# Altium schematic symbol library kmilo17pet-LT_OpAmp_LT1000.SchLib: 2280 symbols (part 48 of 79)
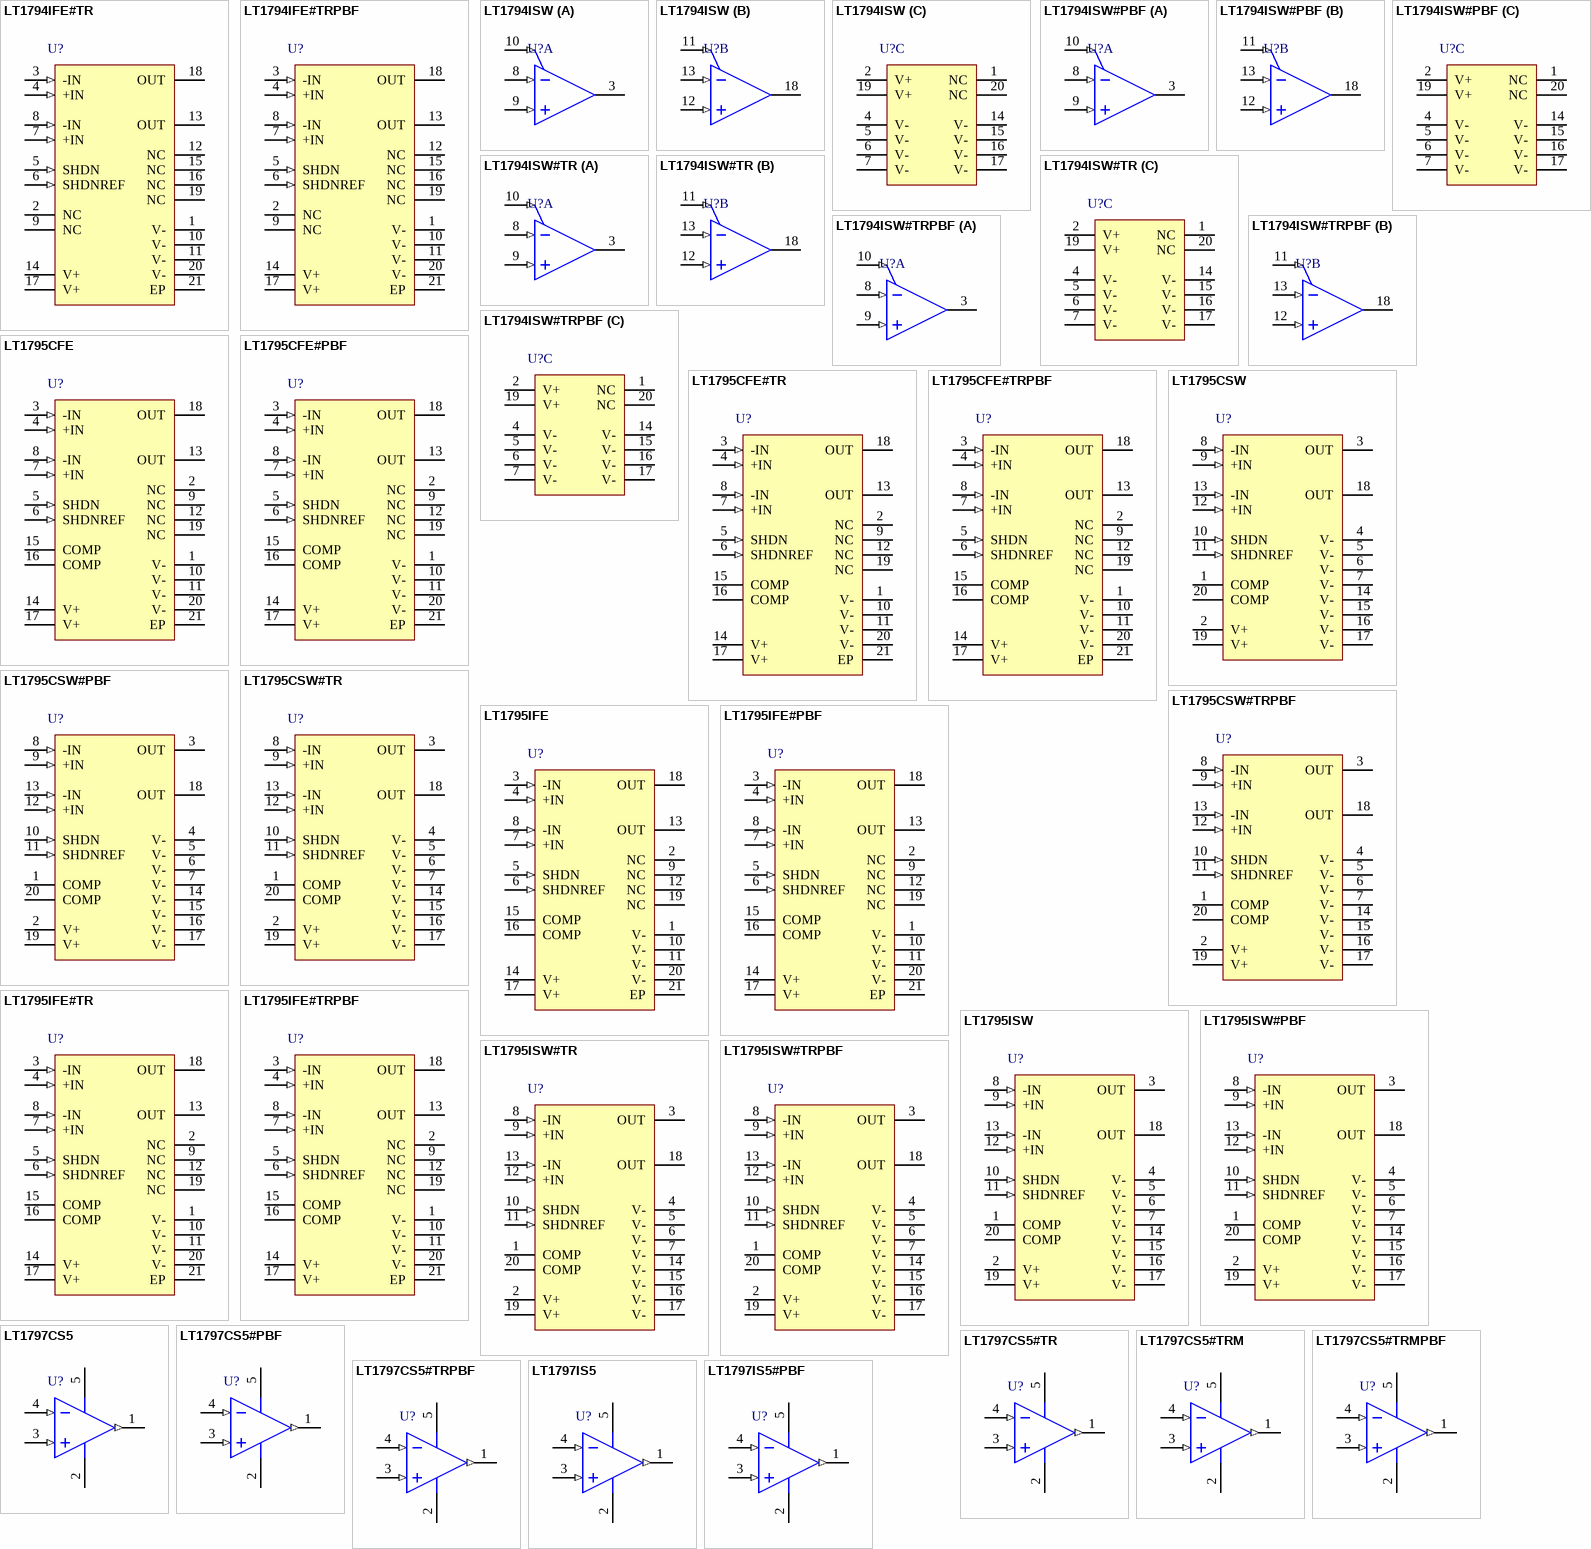
[diagram p152: symbols LT1794IFE#TR to LT1797IS5#PBF]

## LT1795CFE
designator U?
Dual Channel, High Iout, High Speed, Current Feedback Line Driver Operational Amplifier, 65 MHz Typical GBW, 900 V/us Typical SR, 10 to 36 V, 20-Pin SOP (FE-20), Commercial; Linear Technology Part Number: LT1795; Manufacturer: Linear Technology; PartNumber: LT1795CFE; Channels (#): 2; GBW (MHz) Typical: 65; Is (mA) Typical: 29; SR (V/us) Typical: 900; Vos (mV) Guaranteed: 13; Vos (mV) Typical: 3; Vs Max (V): 36; Vs Min (V): 10; DatasheetVersion: Rev. A; PackageVersion: Rev I; PackageReference: LT-FE-20-EPV-CA; PackageDescription: 20-Lead Plastic TSSOP, Body 6.50 x 4.40 mm, Pitch 0.65 mm; Supplier 1: Digi-Key; Supplier Part Number 1: LT1795CFE-ND; Type: CFA; Mounting Technology: Surface Mount; ComponentLink1Description: Manufacturer URL; ComponentLink1URL: http://www.linear.com/; ComponentLink2Description: Datasheet; ComponentLink2URL: http://cds.linear.com/docs/en/datasheet/1795fa.pdf; ComponentLink3Description: Package Specification; ComponentLink3URL: http://cds.linear.com/docs/en/packaging/05081663_I_FE20%28CA%29.pdf
footprint LT-FE-20-EPV-CA_N (SOP, 20-Leads, Body 6.5x4.4mm, Pitch 0.65mm, Thermal Pad 4.95 x 2.74mm, IPC Medium Density)
footprint LT-FE-20-EPV-CA_L (SOP, 20-Leads, Body 6.5x4.4mm, Pitch 0.65mm, Thermal Pad 4.95 x 2.74mm, IPC High Density)
footprint LT-FE-20-EPV-CA_M (SOP, 20-Leads, Body 6.5x4.4mm, Pitch 0.65mm, Thermal Pad 4.95 x2.74mm, IPC Low Density)
pins: 1 V- (power), 2 NC, 3 -IN (in), 4 +IN (in), 5 SHDN (in), 6 SHDNREF (in), 7 +IN (in), 8 -IN (in), 9 NC, 10 V- (power), 11 V- (power), 12 NC, 13 OUT (hiz), 14 V+ (power), 15 COMP, 16 COMP, 17 V+ (power), 18 OUT (hiz), 19 NC, 20 V- (power), 21 EP (power) "UNDERSIDE METAL INTERNALLY CONNECTED TO V- (PCB CONNECTION OPTIONAL)"

## LT1795CFE#PBF
designator U?
Dual Channel, High Iout, High Speed, Current Feedback Line Driver Operational Amplifier, 65 MHz Typical GBW, 900 V/us Typical SR, 10 to 36 V, 20-Pin SOP (FE-20), Commercial, Pb-Free; Linear Technology Part Number: LT1795; Manufacturer: Linear Technology; PartNumber: LT1795CFE#PBF; Channels (#): 2; GBW (MHz) Typical: 65; Is (mA) Typical: 29; SR (V/us) Typical: 900; Vos (mV) Guaranteed: 13; Vos (mV) Typical: 3; Vs Max (V): 36; Vs Min (V): 10; DatasheetVersion: Rev. A; PackageVersion: Rev I; PackageReference: LT-FE-20-EPV-CA; PackageDescription: 20-Lead Plastic TSSOP, Body 6.50 x 4.40 mm, Pitch 0.65 mm; Supplier 1: Digi-Key; Supplier Part Number 1: LT1795CFE#PBF-ND; RoHS: Pb-Free; Type: CFA; Mounting Technology: Surface Mount; ComponentLink1Description: Manufacturer URL; ComponentLink1URL: http://www.linear.com/; ComponentLink2Description: Datasheet; ComponentLink2URL: http://cds.linear.com/docs/en/datasheet/1795fa.pdf; ComponentLink3Description: Package Specification; ComponentLink3URL: http://cds.linear.com/docs/en/packaging/05081663_I_FE20%28CA%29.pdf
footprint LT-FE-20-EPV-CA_N (SOP, 20-Leads, Body 6.5x4.4mm, Pitch 0.65mm, Thermal Pad 4.95 x 2.74mm, IPC Medium Density)
footprint LT-FE-20-EPV-CA_L (SOP, 20-Leads, Body 6.5x4.4mm, Pitch 0.65mm, Thermal Pad 4.95 x 2.74mm, IPC High Density)
footprint LT-FE-20-EPV-CA_M (SOP, 20-Leads, Body 6.5x4.4mm, Pitch 0.65mm, Thermal Pad 4.95 x2.74mm, IPC Low Density)
pins: 1 V- (power), 2 NC, 3 -IN (in), 4 +IN (in), 5 SHDN (in), 6 SHDNREF (in), 7 +IN (in), 8 -IN (in), 9 NC, 10 V- (power), 11 V- (power), 12 NC, 13 OUT (hiz), 14 V+ (power), 15 COMP, 16 COMP, 17 V+ (power), 18 OUT (hiz), 19 NC, 20 V- (power), 21 EP (power) "UNDERSIDE METAL INTERNALLY CONNECTED TO V- (PCB CONNECTION OPTIONAL)"

## LT1795CFE#TR
designator U?
Dual Channel, High Iout, High Speed, Current Feedback Line Driver Operational Amplifier, 65 MHz Typical GBW, 900 V/us Typical SR, 10 to 36 V, 20-Pin SOP (FE-20), Commercial, Reel; Linear Technology Part Number: LT1795; Manufacturer: Linear Technology; PartNumber: LT1795CFE#TR; Channels (#): 2; GBW (MHz) Typical: 65; Is (mA) Typical: 29; SR (V/us) Typical: 900; Vos (mV) Guaranteed: 13; Vos (mV) Typical: 3; Vs Max (V): 36; Vs Min (V): 10; DatasheetVersion: Rev. A; PackageVersion: Rev I; PackageReference: LT-FE-20-EPV-CA; PackageDescription: 20-Lead Plastic TSSOP, Body 6.50 x 4.40 mm, Pitch 0.65 mm; Supplier 1: Digi-Key; Supplier Part Number 1: LT1795CFE#TR-ND; Packing: Reel; Type: CFA; Mounting Technology: Surface Mount; ComponentLink1Description: Manufacturer URL; ComponentLink1URL: http://www.linear.com/; ComponentLink2Description: Datasheet; ComponentLink2URL: http://cds.linear.com/docs/en/datasheet/1795fa.pdf; ComponentLink3Description: Package Specification; ComponentLink3URL: http://cds.linear.com/docs/en/packaging/05081663_I_FE20%28CA%29.pdf
footprint LT-FE-20-EPV-CA_N (SOP, 20-Leads, Body 6.5x4.4mm, Pitch 0.65mm, Thermal Pad 4.95 x 2.74mm, IPC Medium Density)
footprint LT-FE-20-EPV-CA_L (SOP, 20-Leads, Body 6.5x4.4mm, Pitch 0.65mm, Thermal Pad 4.95 x 2.74mm, IPC High Density)
footprint LT-FE-20-EPV-CA_M (SOP, 20-Leads, Body 6.5x4.4mm, Pitch 0.65mm, Thermal Pad 4.95 x2.74mm, IPC Low Density)
pins: 1 V- (power), 2 NC, 3 -IN (in), 4 +IN (in), 5 SHDN (in), 6 SHDNREF (in), 7 +IN (in), 8 -IN (in), 9 NC, 10 V- (power), 11 V- (power), 12 NC, 13 OUT (hiz), 14 V+ (power), 15 COMP, 16 COMP, 17 V+ (power), 18 OUT (hiz), 19 NC, 20 V- (power), 21 EP (power) "UNDERSIDE METAL INTERNALLY CONNECTED TO V- (PCB CONNECTION OPTIONAL)"

## LT1795CFE#TRPBF
designator U?
Dual Channel, High Iout, High Speed, Current Feedback Line Driver Operational Amplifier, 65 MHz Typical GBW, 900 V/us Typical SR, 10 to 36 V, 20-Pin SOP (FE-20), Commercial, Pb-Free, Reel; Linear Technology Part Number: LT1795; Manufacturer: Linear Technology; PartNumber: LT1795CFE#TRPBF; Channels (#): 2; GBW (MHz) Typical: 65; Is (mA) Typical: 29; SR (V/us) Typical: 900; Vos (mV) Guaranteed: 13; Vos (mV) Typical: 3; Vs Max (V): 36; Vs Min (V): 10; DatasheetVersion: Rev. A; PackageVersion: Rev I; PackageReference: LT-FE-20-EPV-CA; PackageDescription: 20-Lead Plastic TSSOP, Body 6.50 x 4.40 mm, Pitch 0.65 mm; Supplier 1: Digi-Key; Supplier Part Number 1: LT1795CFE#TRPBF-ND; Packing: Reel; RoHS: Pb-Free; Type: CFA; Mounting Technology: Surface Mount; ComponentLink1Description: Manufacturer URL; ComponentLink1URL: http://www.linear.com/; ComponentLink2Description: Datasheet; ComponentLink2URL: http://cds.linear.com/docs/en/datasheet/1795fa.pdf; ComponentLink3Description: Package Specification; ComponentLink3URL: http://cds.linear.com/docs/en/packaging/05081663_I_FE20%28CA%29.pdf
footprint LT-FE-20-EPV-CA_N (SOP, 20-Leads, Body 6.5x4.4mm, Pitch 0.65mm, Thermal Pad 4.95 x 2.74mm, IPC Medium Density)
footprint LT-FE-20-EPV-CA_L (SOP, 20-Leads, Body 6.5x4.4mm, Pitch 0.65mm, Thermal Pad 4.95 x 2.74mm, IPC High Density)
footprint LT-FE-20-EPV-CA_M (SOP, 20-Leads, Body 6.5x4.4mm, Pitch 0.65mm, Thermal Pad 4.95 x2.74mm, IPC Low Density)
pins: 1 V- (power), 2 NC, 3 -IN (in), 4 +IN (in), 5 SHDN (in), 6 SHDNREF (in), 7 +IN (in), 8 -IN (in), 9 NC, 10 V- (power), 11 V- (power), 12 NC, 13 OUT (hiz), 14 V+ (power), 15 COMP, 16 COMP, 17 V+ (power), 18 OUT (hiz), 19 NC, 20 V- (power), 21 EP (power) "UNDERSIDE METAL INTERNALLY CONNECTED TO V- (PCB CONNECTION OPTIONAL)"

## LT1795CSW
designator U?
Dual Channel, High Iout, High Speed, Current Feedback Line Driver Operational Amplifier, 65 MHz Typical GBW, 900 V/us Typical SR, 10 to 36 V, 20-Pin SOIC (SW-20), Commercial; Linear Technology Part Number: LT1795; Manufacturer: Linear Technology; PartNumber: LT1795CSW; Channels (#): 2; GBW (MHz) Typical: 65; Is (mA) Typical: 29; SR (V/us) Typical: 900; Vos (mV) Guaranteed: 13; Vos (mV) Typical: 3; Vs Max (V): 36; Vs Min (V): 10; DatasheetVersion: Rev. A; PackageReference: LT-SW-20; PackageDescription: 20-Lead Plastic Small Outline, Body 12.80 x 7.49 mm, Pitch 1.27 mm; Supplier 1: Digi-Key; Supplier Part Number 1: LT1795CSW-ND; Supplier 2: Newark; Supplier Part Number 2: 57M6690; Type: CFA; Mounting Technology: Surface Mount; ComponentLink1Description: Manufacturer URL; ComponentLink1URL: http://www.linear.com/; ComponentLink2Description: Datasheet; ComponentLink2URL: http://cds.linear.com/docs/en/datasheet/1795fa.pdf; ComponentLink3Description: Package Specification; ComponentLink3URL: http://cds.linear.com/docs/en/packaging/SO_16_05-08-1620.pdf
footprint LT-SW-20_N (SOIC, 20-Leads, Body 12.8x7.49mm, Pitch 1.27mm, IPC Medium Density)
footprint LT-SW-20_L (SOIC, 20-Leads, Body 12.8x7.49mm, Pitch 1.27mm, IPC High Density)
footprint LT-SW-20_M (SOIC, 20-Leads, Body 12.8x7.49mm, Pitch 1.27mm, IPC Low Density)
pins: 1 COMP, 2 V+ (power), 3 OUT (hiz), 4 V- (power), 5 V- (power), 6 V- (power), 7 V- (power), 8 -IN (in), 9 +IN (in), 10 SHDN (in), 11 SHDNREF (in), 12 +IN (in), 13 -IN (in), 14 V- (power), 15 V- (power), 16 V- (power), 17 V- (power), 18 OUT (hiz), 19 V+ (power), 20 COMP

## LT1795CSW#PBF
designator U?
Dual Channel, High Iout, High Speed, Current Feedback Line Driver Operational Amplifier, 65 MHz Typical GBW, 900 V/us Typical SR, 10 to 36 V, 20-Pin SOIC (SW-20), Commercial, Pb-Free; Linear Technology Part Number: LT1795; Manufacturer: Linear Technology; PartNumber: LT1795CSW#PBF; Channels (#): 2; GBW (MHz) Typical: 65; Is (mA) Typical: 29; SR (V/us) Typical: 900; Vos (mV) Guaranteed: 13; Vos (mV) Typical: 3; Vs Max (V): 36; Vs Min (V): 10; DatasheetVersion: Rev. A; PackageReference: LT-SW-20; PackageDescription: 20-Lead Plastic Small Outline, Body 12.80 x 7.49 mm, Pitch 1.27 mm; Supplier 1: Digi-Key; Supplier Part Number 1: LT1795CSW#PBF-ND; Supplier 2: Farnell; Supplier Part Number 2: 1330701; Supplier 3: Newark; Supplier Part Number 3: 57M6691; RoHS: Pb-Free; Type: CFA; Mounting Technology: Surface Mount; ComponentLink1Description: Manufacturer URL; ComponentLink1URL: http://www.linear.com/; ComponentLink2Description: Datasheet; ComponentLink2URL: http://cds.linear.com/docs/en/datasheet/1795fa.pdf; ComponentLink3Description: Package Specification; ComponentLink3URL: http://cds.linear.com/docs/en/packaging/SO_16_05-08-1620.pdf
footprint LT-SW-20_N (SOIC, 20-Leads, Body 12.8x7.49mm, Pitch 1.27mm, IPC Medium Density)
footprint LT-SW-20_L (SOIC, 20-Leads, Body 12.8x7.49mm, Pitch 1.27mm, IPC High Density)
footprint LT-SW-20_M (SOIC, 20-Leads, Body 12.8x7.49mm, Pitch 1.27mm, IPC Low Density)
pins: 1 COMP, 2 V+ (power), 3 OUT (hiz), 4 V- (power), 5 V- (power), 6 V- (power), 7 V- (power), 8 -IN (in), 9 +IN (in), 10 SHDN (in), 11 SHDNREF (in), 12 +IN (in), 13 -IN (in), 14 V- (power), 15 V- (power), 16 V- (power), 17 V- (power), 18 OUT (hiz), 19 V+ (power), 20 COMP

## LT1795CSW#TR
designator U?
Dual Channel, High Iout, High Speed, Current Feedback Line Driver Operational Amplifier, 65 MHz Typical GBW, 900 V/us Typical SR, 10 to 36 V, 20-Pin SOIC (SW-20), Commercial, Reel; Linear Technology Part Number: LT1795; Manufacturer: Linear Technology; PartNumber: LT1795CSW#TR; Channels (#): 2; GBW (MHz) Typical: 65; Is (mA) Typical: 29; SR (V/us) Typical: 900; Vos (mV) Guaranteed: 13; Vos (mV) Typical: 3; Vs Max (V): 36; Vs Min (V): 10; DatasheetVersion: Rev. A; PackageReference: LT-SW-20; PackageDescription: 20-Lead Plastic Small Outline, Body 12.80 x 7.49 mm, Pitch 1.27 mm; Supplier 1: Digi-Key; Supplier Part Number 1: LT1795CSW#TR-ND; Packing: Reel; Type: CFA; Mounting Technology: Surface Mount; ComponentLink1Description: Manufacturer URL; ComponentLink1URL: http://www.linear.com/; ComponentLink2Description: Datasheet; ComponentLink2URL: http://cds.linear.com/docs/en/datasheet/1795fa.pdf; ComponentLink3Description: Package Specification; ComponentLink3URL: http://cds.linear.com/docs/en/packaging/SO_16_05-08-1620.pdf
footprint LT-SW-20_N (SOIC, 20-Leads, Body 12.8x7.49mm, Pitch 1.27mm, IPC Medium Density)
footprint LT-SW-20_L (SOIC, 20-Leads, Body 12.8x7.49mm, Pitch 1.27mm, IPC High Density)
footprint LT-SW-20_M (SOIC, 20-Leads, Body 12.8x7.49mm, Pitch 1.27mm, IPC Low Density)
pins: 1 COMP, 2 V+ (power), 3 OUT (hiz), 4 V- (power), 5 V- (power), 6 V- (power), 7 V- (power), 8 -IN (in), 9 +IN (in), 10 SHDN (in), 11 SHDNREF (in), 12 +IN (in), 13 -IN (in), 14 V- (power), 15 V- (power), 16 V- (power), 17 V- (power), 18 OUT (hiz), 19 V+ (power), 20 COMP

## LT1795CSW#TRPBF
designator U?
Dual Channel, High Iout, High Speed, Current Feedback Line Driver Operational Amplifier, 65 MHz Typical GBW, 900 V/us Typical SR, 10 to 36 V, 20-Pin SOIC (SW-20), Commercial, Pb-Free, Reel; Linear Technology Part Number: LT1795; Manufacturer: Linear Technology; PartNumber: LT1795CSW#TRPBF; Channels (#): 2; GBW (MHz) Typical: 65; Is (mA) Typical: 29; SR (V/us) Typical: 900; Vos (mV) Guaranteed: 13; Vos (mV) Typical: 3; Vs Max (V): 36; Vs Min (V): 10; DatasheetVersion: Rev. A; PackageReference: LT-SW-20; PackageDescription: 20-Lead Plastic Small Outline, Body 12.80 x 7.49 mm, Pitch 1.27 mm; Supplier 1: Digi-Key; Supplier Part Number 1: LT1795CSW#TRPBF-ND; Packing: Reel; RoHS: Pb-Free; Type: CFA; Mounting Technology: Surface Mount; ComponentLink1Description: Manufacturer URL; ComponentLink1URL: http://www.linear.com/; ComponentLink2Description: Datasheet; ComponentLink2URL: http://cds.linear.com/docs/en/datasheet/1795fa.pdf; ComponentLink3Description: Package Specification; ComponentLink3URL: http://cds.linear.com/docs/en/packaging/SO_16_05-08-1620.pdf
footprint LT-SW-20_N (SOIC, 20-Leads, Body 12.8x7.49mm, Pitch 1.27mm, IPC Medium Density)
footprint LT-SW-20_L (SOIC, 20-Leads, Body 12.8x7.49mm, Pitch 1.27mm, IPC High Density)
footprint LT-SW-20_M (SOIC, 20-Leads, Body 12.8x7.49mm, Pitch 1.27mm, IPC Low Density)
pins: 1 COMP, 2 V+ (power), 3 OUT (hiz), 4 V- (power), 5 V- (power), 6 V- (power), 7 V- (power), 8 -IN (in), 9 +IN (in), 10 SHDN (in), 11 SHDNREF (in), 12 +IN (in), 13 -IN (in), 14 V- (power), 15 V- (power), 16 V- (power), 17 V- (power), 18 OUT (hiz), 19 V+ (power), 20 COMP

## LT1795IFE
designator U?
Dual Channel, High Iout, High Speed, Current Feedback Line Driver Operational Amplifier, 65 MHz Typical GBW, 900 V/us Typical SR, 10 to 36 V, 20-Pin SOP (FE-20), Industrial; Linear Technology Part Number: LT1795; Manufacturer: Linear Technology; PartNumber: LT1795IFE; Channels (#): 2; GBW (MHz) Typical: 65; Is (mA) Typical: 29; SR (V/us) Typical: 900; Vos (mV) Guaranteed: 13; Vos (mV) Typical: 3; Vs Max (V): 36; Vs Min (V): 10; DatasheetVersion: Rev. A; PackageVersion: Rev I; PackageReference: LT-FE-20-EPV-CA; PackageDescription: 20-Lead Plastic TSSOP, Body 6.50 x 4.40 mm, Pitch 0.65 mm; Supplier 1: Digi-Key; Supplier Part Number 1: LT1795IFE-ND; Type: CFA; Mounting Technology: Surface Mount; ComponentLink1Description: Manufacturer URL; ComponentLink1URL: http://www.linear.com/; ComponentLink2Description: Datasheet; ComponentLink2URL: http://cds.linear.com/docs/en/datasheet/1795fa.pdf; ComponentLink3Description: Package Specification; ComponentLink3URL: http://cds.linear.com/docs/en/packaging/05081663_I_FE20%28CA%29.pdf
footprint LT-FE-20-EPV-CA_N (SOP, 20-Leads, Body 6.5x4.4mm, Pitch 0.65mm, Thermal Pad 4.95 x 2.74mm, IPC Medium Density)
footprint LT-FE-20-EPV-CA_L (SOP, 20-Leads, Body 6.5x4.4mm, Pitch 0.65mm, Thermal Pad 4.95 x 2.74mm, IPC High Density)
footprint LT-FE-20-EPV-CA_M (SOP, 20-Leads, Body 6.5x4.4mm, Pitch 0.65mm, Thermal Pad 4.95 x2.74mm, IPC Low Density)
pins: 1 V- (power), 2 NC, 3 -IN (in), 4 +IN (in), 5 SHDN (in), 6 SHDNREF (in), 7 +IN (in), 8 -IN (in), 9 NC, 10 V- (power), 11 V- (power), 12 NC, 13 OUT (hiz), 14 V+ (power), 15 COMP, 16 COMP, 17 V+ (power), 18 OUT (hiz), 19 NC, 20 V- (power), 21 EP (power) "UNDERSIDE METAL INTERNALLY CONNECTED TO V- (PCB CONNECTION OPTIONAL)"

## LT1795IFE#PBF
designator U?
Dual Channel, High Iout, High Speed, Current Feedback Line Driver Operational Amplifier, 65 MHz Typical GBW, 900 V/us Typical SR, 10 to 36 V, 20-Pin SOP (FE-20), Industrial, Pb-Free; Linear Technology Part Number: LT1795; Manufacturer: Linear Technology; PartNumber: LT1795IFE#PBF; Channels (#): 2; GBW (MHz) Typical: 65; Is (mA) Typical: 29; SR (V/us) Typical: 900; Vos (mV) Guaranteed: 13; Vos (mV) Typical: 3; Vs Max (V): 36; Vs Min (V): 10; DatasheetVersion: Rev. A; PackageVersion: Rev I; PackageReference: LT-FE-20-EPV-CA; PackageDescription: 20-Lead Plastic TSSOP, Body 6.50 x 4.40 mm, Pitch 0.65 mm; Supplier 1: Digi-Key; Supplier Part Number 1: LT1795IFE#PBF-ND; RoHS: Pb-Free; Type: CFA; Mounting Technology: Surface Mount; ComponentLink1Description: Manufacturer URL; ComponentLink1URL: http://www.linear.com/; ComponentLink2Description: Datasheet; ComponentLink2URL: http://cds.linear.com/docs/en/datasheet/1795fa.pdf; ComponentLink3Description: Package Specification; ComponentLink3URL: http://cds.linear.com/docs/en/packaging/05081663_I_FE20%28CA%29.pdf
footprint LT-FE-20-EPV-CA_N (SOP, 20-Leads, Body 6.5x4.4mm, Pitch 0.65mm, Thermal Pad 4.95 x 2.74mm, IPC Medium Density)
footprint LT-FE-20-EPV-CA_L (SOP, 20-Leads, Body 6.5x4.4mm, Pitch 0.65mm, Thermal Pad 4.95 x 2.74mm, IPC High Density)
footprint LT-FE-20-EPV-CA_M (SOP, 20-Leads, Body 6.5x4.4mm, Pitch 0.65mm, Thermal Pad 4.95 x2.74mm, IPC Low Density)
pins: 1 V- (power), 2 NC, 3 -IN (in), 4 +IN (in), 5 SHDN (in), 6 SHDNREF (in), 7 +IN (in), 8 -IN (in), 9 NC, 10 V- (power), 11 V- (power), 12 NC, 13 OUT (hiz), 14 V+ (power), 15 COMP, 16 COMP, 17 V+ (power), 18 OUT (hiz), 19 NC, 20 V- (power), 21 EP (power) "UNDERSIDE METAL INTERNALLY CONNECTED TO V- (PCB CONNECTION OPTIONAL)"

## LT1795IFE#TR
designator U?
Dual Channel, High Iout, High Speed, Current Feedback Line Driver Operational Amplifier, 65 MHz Typical GBW, 900 V/us Typical SR, 10 to 36 V, 20-Pin SOP (FE-20), Industrial, Reel; Linear Technology Part Number: LT1795; Manufacturer: Linear Technology; PartNumber: LT1795IFE#TR; Channels (#): 2; GBW (MHz) Typical: 65; Is (mA) Typical: 29; SR (V/us) Typical: 900; Vos (mV) Guaranteed: 13; Vos (mV) Typical: 3; Vs Max (V): 36; Vs Min (V): 10; DatasheetVersion: Rev. A; PackageVersion: Rev I; PackageReference: LT-FE-20-EPV-CA; PackageDescription: 20-Lead Plastic TSSOP, Body 6.50 x 4.40 mm, Pitch 0.65 mm; Supplier 1: Digi-Key; Supplier Part Number 1: LT1795IFE#TR-ND; Packing: Reel; Type: CFA; Mounting Technology: Surface Mount; ComponentLink1Description: Manufacturer URL; ComponentLink1URL: http://www.linear.com/; ComponentLink2Description: Datasheet; ComponentLink2URL: http://cds.linear.com/docs/en/datasheet/1795fa.pdf; ComponentLink3Description: Package Specification; ComponentLink3URL: http://cds.linear.com/docs/en/packaging/05081663_I_FE20%28CA%29.pdf
footprint LT-FE-20-EPV-CA_N (SOP, 20-Leads, Body 6.5x4.4mm, Pitch 0.65mm, Thermal Pad 4.95 x 2.74mm, IPC Medium Density)
footprint LT-FE-20-EPV-CA_L (SOP, 20-Leads, Body 6.5x4.4mm, Pitch 0.65mm, Thermal Pad 4.95 x 2.74mm, IPC High Density)
footprint LT-FE-20-EPV-CA_M (SOP, 20-Leads, Body 6.5x4.4mm, Pitch 0.65mm, Thermal Pad 4.95 x2.74mm, IPC Low Density)
pins: 1 V- (power), 2 NC, 3 -IN (in), 4 +IN (in), 5 SHDN (in), 6 SHDNREF (in), 7 +IN (in), 8 -IN (in), 9 NC, 10 V- (power), 11 V- (power), 12 NC, 13 OUT (hiz), 14 V+ (power), 15 COMP, 16 COMP, 17 V+ (power), 18 OUT (hiz), 19 NC, 20 V- (power), 21 EP (power) "UNDERSIDE METAL INTERNALLY CONNECTED TO V- (PCB CONNECTION OPTIONAL)"

## LT1795IFE#TRPBF
designator U?
Dual Channel, High Iout, High Speed, Current Feedback Line Driver Operational Amplifier, 65 MHz Typical GBW, 900 V/us Typical SR, 10 to 36 V, 20-Pin SOP (FE-20), Industrial, Pb-Free, Reel; Linear Technology Part Number: LT1795; Manufacturer: Linear Technology; PartNumber: LT1795IFE#TRPBF; Channels (#): 2; GBW (MHz) Typical: 65; Is (mA) Typical: 29; SR (V/us) Typical: 900; Vos (mV) Guaranteed: 13; Vos (mV) Typical: 3; Vs Max (V): 36; Vs Min (V): 10; DatasheetVersion: Rev. A; PackageVersion: Rev I; PackageReference: LT-FE-20-EPV-CA; PackageDescription: 20-Lead Plastic TSSOP, Body 6.50 x 4.40 mm, Pitch 0.65 mm; Supplier 1: Digi-Key; Supplier Part Number 1: LT1795IFE#TRPBF-ND; Packing: Reel; RoHS: Pb-Free; Type: CFA; Mounting Technology: Surface Mount; ComponentLink1Description: Manufacturer URL; ComponentLink1URL: http://www.linear.com/; ComponentLink2Description: Datasheet; ComponentLink2URL: http://cds.linear.com/docs/en/datasheet/1795fa.pdf; ComponentLink3Description: Package Specification; ComponentLink3URL: http://cds.linear.com/docs/en/packaging/05081663_I_FE20%28CA%29.pdf
footprint LT-FE-20-EPV-CA_N (SOP, 20-Leads, Body 6.5x4.4mm, Pitch 0.65mm, Thermal Pad 4.95 x 2.74mm, IPC Medium Density)
footprint LT-FE-20-EPV-CA_L (SOP, 20-Leads, Body 6.5x4.4mm, Pitch 0.65mm, Thermal Pad 4.95 x 2.74mm, IPC High Density)
footprint LT-FE-20-EPV-CA_M (SOP, 20-Leads, Body 6.5x4.4mm, Pitch 0.65mm, Thermal Pad 4.95 x2.74mm, IPC Low Density)
pins: 1 V- (power), 2 NC, 3 -IN (in), 4 +IN (in), 5 SHDN (in), 6 SHDNREF (in), 7 +IN (in), 8 -IN (in), 9 NC, 10 V- (power), 11 V- (power), 12 NC, 13 OUT (hiz), 14 V+ (power), 15 COMP, 16 COMP, 17 V+ (power), 18 OUT (hiz), 19 NC, 20 V- (power), 21 EP (power) "UNDERSIDE METAL INTERNALLY CONNECTED TO V- (PCB CONNECTION OPTIONAL)"

## LT1795ISW
designator U?
Dual Channel, High Iout, High Speed, Current Feedback Line Driver Operational Amplifier, 65 MHz Typical GBW, 900 V/us Typical SR, 10 to 36 V, 20-Pin SOIC (SW-20), Industrial; Linear Technology Part Number: LT1795; Manufacturer: Linear Technology; PartNumber: LT1795ISW; Channels (#): 2; GBW (MHz) Typical: 65; Is (mA) Typical: 29; SR (V/us) Typical: 900; Vos (mV) Guaranteed: 13; Vos (mV) Typical: 3; Vs Max (V): 36; Vs Min (V): 10; DatasheetVersion: Rev. A; PackageReference: LT-SW-20; PackageDescription: 20-Lead Plastic Small Outline, Body 12.80 x 7.49 mm, Pitch 1.27 mm; Supplier 1: Digi-Key; Supplier Part Number 1: LT1795ISW-ND; Type: CFA; Mounting Technology: Surface Mount; ComponentLink1Description: Manufacturer URL; ComponentLink1URL: http://www.linear.com/; ComponentLink2Description: Datasheet; ComponentLink2URL: http://cds.linear.com/docs/en/datasheet/1795fa.pdf; ComponentLink3Description: Package Specification; ComponentLink3URL: http://cds.linear.com/docs/en/packaging/SO_16_05-08-1620.pdf
footprint LT-SW-20_N (SOIC, 20-Leads, Body 12.8x7.49mm, Pitch 1.27mm, IPC Medium Density)
footprint LT-SW-20_L (SOIC, 20-Leads, Body 12.8x7.49mm, Pitch 1.27mm, IPC High Density)
footprint LT-SW-20_M (SOIC, 20-Leads, Body 12.8x7.49mm, Pitch 1.27mm, IPC Low Density)
pins: 1 COMP, 2 V+ (power), 3 OUT (hiz), 4 V- (power), 5 V- (power), 6 V- (power), 7 V- (power), 8 -IN (in), 9 +IN (in), 10 SHDN (in), 11 SHDNREF (in), 12 +IN (in), 13 -IN (in), 14 V- (power), 15 V- (power), 16 V- (power), 17 V- (power), 18 OUT (hiz), 19 V+ (power), 20 COMP

## LT1795ISW#PBF
designator U?
Dual Channel, High Iout, High Speed, Current Feedback Line Driver Operational Amplifier, 65 MHz Typical GBW, 900 V/us Typical SR, 10 to 36 V, 20-Pin SOIC (SW-20), Industrial, Pb-Free; Linear Technology Part Number: LT1795; Manufacturer: Linear Technology; PartNumber: LT1795ISW#PBF; Channels (#): 2; GBW (MHz) Typical: 65; Is (mA) Typical: 29; SR (V/us) Typical: 900; Vos (mV) Guaranteed: 13; Vos (mV) Typical: 3; Vs Max (V): 36; Vs Min (V): 10; DatasheetVersion: Rev. A; PackageReference: LT-SW-20; PackageDescription: 20-Lead Plastic Small Outline, Body 12.80 x 7.49 mm, Pitch 1.27 mm; Supplier 1: Digi-Key; Supplier Part Number 1: LT1795ISW#PBF-ND; RoHS: Pb-Free; Type: CFA; Mounting Technology: Surface Mount; ComponentLink1Description: Manufacturer URL; ComponentLink1URL: http://www.linear.com/; ComponentLink2Description: Datasheet; ComponentLink2URL: http://cds.linear.com/docs/en/datasheet/1795fa.pdf; ComponentLink3Description: Package Specification; ComponentLink3URL: http://cds.linear.com/docs/en/packaging/SO_16_05-08-1620.pdf
footprint LT-SW-20_N (SOIC, 20-Leads, Body 12.8x7.49mm, Pitch 1.27mm, IPC Medium Density)
footprint LT-SW-20_L (SOIC, 20-Leads, Body 12.8x7.49mm, Pitch 1.27mm, IPC High Density)
footprint LT-SW-20_M (SOIC, 20-Leads, Body 12.8x7.49mm, Pitch 1.27mm, IPC Low Density)
pins: 1 COMP, 2 V+ (power), 3 OUT (hiz), 4 V- (power), 5 V- (power), 6 V- (power), 7 V- (power), 8 -IN (in), 9 +IN (in), 10 SHDN (in), 11 SHDNREF (in), 12 +IN (in), 13 -IN (in), 14 V- (power), 15 V- (power), 16 V- (power), 17 V- (power), 18 OUT (hiz), 19 V+ (power), 20 COMP

## LT1795ISW#TR
designator U?
Dual Channel, High Iout, High Speed, Current Feedback Line Driver Operational Amplifier, 65 MHz Typical GBW, 900 V/us Typical SR, 10 to 36 V, 20-Pin SOIC (SW-20), Industrial, Reel; Linear Technology Part Number: LT1795; Manufacturer: Linear Technology; PartNumber: LT1795ISW#TR; Channels (#): 2; GBW (MHz) Typical: 65; Is (mA) Typical: 29; SR (V/us) Typical: 900; Vos (mV) Guaranteed: 13; Vos (mV) Typical: 3; Vs Max (V): 36; Vs Min (V): 10; DatasheetVersion: Rev. A; PackageReference: LT-SW-20; PackageDescription: 20-Lead Plastic Small Outline, Body 12.80 x 7.49 mm, Pitch 1.27 mm; Supplier 1: Digi-Key; Supplier Part Number 1: LT1795ISW#TR-ND; Packing: Reel; Type: CFA; Mounting Technology: Surface Mount; ComponentLink1Description: Manufacturer URL; ComponentLink1URL: http://www.linear.com/; ComponentLink2Description: Datasheet; ComponentLink2URL: http://cds.linear.com/docs/en/datasheet/1795fa.pdf; ComponentLink3Description: Package Specification; ComponentLink3URL: http://cds.linear.com/docs/en/packaging/SO_16_05-08-1620.pdf
footprint LT-SW-20_N (SOIC, 20-Leads, Body 12.8x7.49mm, Pitch 1.27mm, IPC Medium Density)
footprint LT-SW-20_L (SOIC, 20-Leads, Body 12.8x7.49mm, Pitch 1.27mm, IPC High Density)
footprint LT-SW-20_M (SOIC, 20-Leads, Body 12.8x7.49mm, Pitch 1.27mm, IPC Low Density)
pins: 1 COMP, 2 V+ (power), 3 OUT (hiz), 4 V- (power), 5 V- (power), 6 V- (power), 7 V- (power), 8 -IN (in), 9 +IN (in), 10 SHDN (in), 11 SHDNREF (in), 12 +IN (in), 13 -IN (in), 14 V- (power), 15 V- (power), 16 V- (power), 17 V- (power), 18 OUT (hiz), 19 V+ (power), 20 COMP

## LT1795ISW#TRPBF
designator U?
Dual Channel, High Iout, High Speed, Current Feedback Line Driver Operational Amplifier, 65 MHz Typical GBW, 900 V/us Typical SR, 10 to 36 V, 20-Pin SOIC (SW-20), Industrial, Pb-Free, Reel; Linear Technology Part Number: LT1795; Manufacturer: Linear Technology; PartNumber: LT1795ISW#TRPBF; Channels (#): 2; GBW (MHz) Typical: 65; Is (mA) Typical: 29; SR (V/us) Typical: 900; Vos (mV) Guaranteed: 13; Vos (mV) Typical: 3; Vs Max (V): 36; Vs Min (V): 10; DatasheetVersion: Rev. A; PackageReference: LT-SW-20; PackageDescription: 20-Lead Plastic Small Outline, Body 12.80 x 7.49 mm, Pitch 1.27 mm; Supplier 1: Digi-Key; Supplier Part Number 1: LT1795ISW#TRPBF-ND; Packing: Reel; RoHS: Pb-Free; Type: CFA; Mounting Technology: Surface Mount; ComponentLink1Description: Manufacturer URL; ComponentLink1URL: http://www.linear.com/; ComponentLink2Description: Datasheet; ComponentLink2URL: http://cds.linear.com/docs/en/datasheet/1795fa.pdf; ComponentLink3Description: Package Specification; ComponentLink3URL: http://cds.linear.com/docs/en/packaging/SO_16_05-08-1620.pdf
footprint LT-SW-20_N (SOIC, 20-Leads, Body 12.8x7.49mm, Pitch 1.27mm, IPC Medium Density)
footprint LT-SW-20_L (SOIC, 20-Leads, Body 12.8x7.49mm, Pitch 1.27mm, IPC High Density)
footprint LT-SW-20_M (SOIC, 20-Leads, Body 12.8x7.49mm, Pitch 1.27mm, IPC Low Density)
pins: 1 COMP, 2 V+ (power), 3 OUT (hiz), 4 V- (power), 5 V- (power), 6 V- (power), 7 V- (power), 8 -IN (in), 9 +IN (in), 10 SHDN (in), 11 SHDNREF (in), 12 +IN (in), 13 -IN (in), 14 V- (power), 15 V- (power), 16 V- (power), 17 V- (power), 18 OUT (hiz), 19 V+ (power), 20 COMP

## LT1797CS5
designator U?
Single Channel, Low Noise, C-Load Stable Operational Amplifier, RRIO, 10 MHz Typical GBW, 2.25 V/us Typical SR, 2.1 to 12.6 V, 5-Pin SOT23 (S5-5), Commercial; Linear Technology Part Number: LT1797; Manufacturer: Linear Technology; PartNumber: LT1797CS5; Channels (#): 1; GBW (MHz) Typical: 10; Is (mA) Typical: 1.1; SR (V/us) Typical: 2.25; Vos (mV) Guaranteed: 1.5; Vs Max (V): 12.6; Vs Min (V): 2.1; DatasheetVersion: Rev. B; PackageReference: LT-S5-5-TSOT-23; PackageDescription: 5-Lead Plastic TSOT-23, Body 1.63 x 2.90 mm, Pitch 0.95 mm; Type: VFB; Vos (mV) Typical: 1; Mounting Technology: Surface Mount; Code_JEDEC: MO-193; ComponentLink1Description: Manufacturer URL; ComponentLink1URL: http://www.linear.com/; ComponentLink2Description: Datasheet; ComponentLink2URL: http://cds.linear.com/docs/en/datasheet/1797fb.pdf; ComponentLink3Description: Package Specification; ComponentLink3URL: http://cds.linear.com/docs/en/packaging/SOT_5_05-08-1635.pdf
footprint LT-S5-5-TSOT-23_N (SOT23, 5-Leads, Body 2.90x1.63mm, Pitch 0.95mm, IPC Medium Density)
footprint LT-S5-5-TSOT-23_L (SOT23, 5-Leads, Body 2.90x1.63mm, Pitch 0.95mm, IPC High Density)
footprint LT-S5-5-TSOT-23_M (SOT23, 5-Leads, Body 2.90x1.63mm, Pitch 0.95mm, IPC Low Density)
pins: 1 OUT (out) "Output.", 2 V- (power) "Negative Supply Voltage, Usually -5V.", 3 +IN (in) "Noninverting Input.", 4 -IN (in) "Inverting Input.", 5 V+ (power) "Positive Supply Voltage, Usually 5V."

## LT1797CS5#PBF
designator U?
Single Channel, Low Noise, C-load Stable Operational Amplifier, RRIO, 10 MHz Typical GBW, 2.25 V/us Typical SR, 2.1 to 12.6 V, 5-Pin SOT23 (S5-5), Commercial, Pb-Free; Linear Technology Part Number: LT1797; Manufacturer: Linear Technology; PartNumber: LT1797CS5#PBF; Channels (#): 1; GBW (MHz) Typical: 10; Is (mA) Typical: 1.1; SR (V/us) Typical: 2.25; Vos (mV) Guaranteed: 1.5; Vs Max (V): 12.6; Vs Min (V): 2.1; DatasheetVersion: Rev. B; PackageReference: LT-S5-5-TSOT-23; PackageDescription: 5-Lead Plastic TSOT-23, Body 1.63 x 2.90 mm, Pitch 0.95 mm; Supplier 1: Newark; Supplier Part Number 1: 78T3739; RoHS: Pb-Free; Type: VFB; Vos (mV) Typical: 1; Mounting Technology: Surface Mount; Code_JEDEC: MO-193; ComponentLink1Description: Manufacturer URL; ComponentLink1URL: http://www.linear.com/; ComponentLink2Description: Datasheet; ComponentLink2URL: http://cds.linear.com/docs/en/datasheet/1797fb.pdf; ComponentLink3Description: Package Specification; ComponentLink3URL: http://cds.linear.com/docs/en/packaging/SOT_5_05-08-1635.pdf
footprint LT-S5-5-TSOT-23_N (SOT23, 5-Leads, Body 2.90x1.63mm, Pitch 0.95mm, IPC Medium Density)
footprint LT-S5-5-TSOT-23_L (SOT23, 5-Leads, Body 2.90x1.63mm, Pitch 0.95mm, IPC High Density)
footprint LT-S5-5-TSOT-23_M (SOT23, 5-Leads, Body 2.90x1.63mm, Pitch 0.95mm, IPC Low Density)
pins: 1 OUT (out) "Output.", 2 V- (power) "Negative Supply Voltage, Usually -5V.", 3 +IN (in) "Noninverting Input.", 4 -IN (in) "Inverting Input.", 5 V+ (power) "Positive Supply Voltage, Usually 5V."

## LT1797CS5#TR
designator U?
Single Channel, Low Noise, C-load Stable Operational Amplifier, RRIO, 10 MHz Typical GBW, 2.25 V/us Typical SR, 2.1 to 12.6 V, 5-Pin SOT23 (S5-5), Commercial, Reel; Linear Technology Part Number: LT1797; Manufacturer: Linear Technology; PartNumber: LT1797CS5#TR; Channels (#): 1; GBW (MHz) Typical: 10; Is (mA) Typical: 1.1; SR (V/us) Typical: 2.25; Vos (mV) Guaranteed: 1.5; Vs Max (V): 12.6; Vs Min (V): 2.1; DatasheetVersion: Rev. B; PackageReference: LT-S5-5-TSOT-23; PackageDescription: 5-Lead Plastic TSOT-23, Body 1.63 x 2.90 mm, Pitch 0.95 mm; Supplier 1: Digi-Key; Supplier Part Number 1: LT1797CS5#TR-ND; Packing: Reel; Type: VFB; Vos (mV) Typical: 1; Mounting Technology: Surface Mount; Code_JEDEC: MO-193; ComponentLink1Description: Manufacturer URL; ComponentLink1URL: http://www.linear.com/; ComponentLink2Description: Datasheet; ComponentLink2URL: http://cds.linear.com/docs/en/datasheet/1797fb.pdf; ComponentLink3Description: Package Specification; ComponentLink3URL: http://cds.linear.com/docs/en/packaging/SOT_5_05-08-1635.pdf
footprint LT-S5-5-TSOT-23_N (SOT23, 5-Leads, Body 2.90x1.63mm, Pitch 0.95mm, IPC Medium Density)
footprint LT-S5-5-TSOT-23_L (SOT23, 5-Leads, Body 2.90x1.63mm, Pitch 0.95mm, IPC High Density)
footprint LT-S5-5-TSOT-23_M (SOT23, 5-Leads, Body 2.90x1.63mm, Pitch 0.95mm, IPC Low Density)
pins: 1 OUT (out) "Output.", 2 V- (power) "Negative Supply Voltage, Usually -5V.", 3 +IN (in) "Noninverting Input.", 4 -IN (in) "Inverting Input.", 5 V+ (power) "Positive Supply Voltage, Usually 5V."

## LT1797CS5#TRM
designator U?
Single Channel, Low Noise, C-load Stable Operational Amplifier, RRIO, 10 MHz Typical GBW, 2.25 V/us Typical SR, 2.1 to 12.6 V, 5-Pin SOT23 (S5-5), Commercial, Mini Reel; Linear Technology Part Number: LT1797; Manufacturer: Linear Technology; PartNumber: LT1797CS5#TRM; Channels (#): 1; GBW (MHz) Typical: 10; Is (mA) Typical: 1.1; SR (V/us) Typical: 2.25; Vos (mV) Guaranteed: 1.5; Vs Max (V): 12.6; Vs Min (V): 2.1; DatasheetVersion: Rev. B; PackageReference: LT-S5-5-TSOT-23; PackageDescription: 5-Lead Plastic TSOT-23, Body 1.63 x 2.90 mm, Pitch 0.95 mm; Supplier 1: Digi-Key; Supplier Part Number 1: LT1797CS5#TRM-ND; Packing: Mini Reel; Type: VFB; Vos (mV) Typical: 1; Mounting Technology: Surface Mount; Code_JEDEC: MO-193; ComponentLink1Description: Manufacturer URL; ComponentLink1URL: http://www.linear.com/; ComponentLink2Description: Datasheet; ComponentLink2URL: http://cds.linear.com/docs/en/datasheet/1797fb.pdf; ComponentLink3Description: Package Specification; ComponentLink3URL: http://cds.linear.com/docs/en/packaging/SOT_5_05-08-1635.pdf
footprint LT-S5-5-TSOT-23_N (SOT23, 5-Leads, Body 2.90x1.63mm, Pitch 0.95mm, IPC Medium Density)
footprint LT-S5-5-TSOT-23_L (SOT23, 5-Leads, Body 2.90x1.63mm, Pitch 0.95mm, IPC High Density)
footprint LT-S5-5-TSOT-23_M (SOT23, 5-Leads, Body 2.90x1.63mm, Pitch 0.95mm, IPC Low Density)
pins: 1 OUT (out) "Output.", 2 V- (power) "Negative Supply Voltage, Usually -5V.", 3 +IN (in) "Noninverting Input.", 4 -IN (in) "Inverting Input.", 5 V+ (power) "Positive Supply Voltage, Usually 5V."

## LT1797CS5#TRMPBF
designator U?
Single Channel, Low Noise, C-load Stable Operational Amplifier, RRIO, 10 MHz Typical GBW, 2.25 V/us Typical SR, 2.1 to 12.6 V, 5-Pin SOT23 (S5-5), Commercial, Pb-Free, Mini Reel; Linear Technology Part Number: LT1797; Manufacturer: Linear Technology; PartNumber: LT1797CS5#TRMPBF; Channels (#): 1; GBW (MHz) Typical: 10; Is (mA) Typical: 1.1; SR (V/us) Typical: 2.25; Vos (mV) Guaranteed: 1.5; Vs Max (V): 12.6; Vs Min (V): 2.1; DatasheetVersion: Rev. B; PackageReference: LT-S5-5-TSOT-23; PackageDescription: 5-Lead Plastic TSOT-23, Body 1.63 x 2.90 mm, Pitch 0.95 mm; Supplier 1: Digi-Key; Supplier Part Number 1: LT1797CS5#TRMPBF-ND; Packing: Mini Reel; RoHS: Pb-Free; Type: VFB; Vos (mV) Typical: 1; Mounting Technology: Surface Mount; Code_JEDEC: MO-193; ComponentLink1Description: Manufacturer URL; ComponentLink1URL: http://www.linear.com/; ComponentLink2Description: Datasheet; ComponentLink2URL: http://cds.linear.com/docs/en/datasheet/1797fb.pdf; ComponentLink3Description: Package Specification; ComponentLink3URL: http://cds.linear.com/docs/en/packaging/SOT_5_05-08-1635.pdf
footprint LT-S5-5-TSOT-23_N (SOT23, 5-Leads, Body 2.90x1.63mm, Pitch 0.95mm, IPC Medium Density)
footprint LT-S5-5-TSOT-23_L (SOT23, 5-Leads, Body 2.90x1.63mm, Pitch 0.95mm, IPC High Density)
footprint LT-S5-5-TSOT-23_M (SOT23, 5-Leads, Body 2.90x1.63mm, Pitch 0.95mm, IPC Low Density)
pins: 1 OUT (out) "Output.", 2 V- (power) "Negative Supply Voltage, Usually -5V.", 3 +IN (in) "Noninverting Input.", 4 -IN (in) "Inverting Input.", 5 V+ (power) "Positive Supply Voltage, Usually 5V."

## LT1797CS5#TRPBF
designator U?
Single Channel, Low Noise, C-load Stable Operational Amplifier, RRIO, 10 MHz Typical GBW, 2.25 V/us Typical SR, 2.1 to 12.6 V, 5-Pin SOT23 (S5-5), Commercial, Pb-Free, Reel; Linear Technology Part Number: LT1797; Manufacturer: Linear Technology; PartNumber: LT1797CS5#TRPBF; Channels (#): 1; GBW (MHz) Typical: 10; Is (mA) Typical: 1.1; SR (V/us) Typical: 2.25; Vos (mV) Guaranteed: 1.5; Vs Max (V): 12.6; Vs Min (V): 2.1; DatasheetVersion: Rev. B; PackageReference: LT-S5-5-TSOT-23; PackageDescription: 5-Lead Plastic TSOT-23, Body 1.63 x 2.90 mm, Pitch 0.95 mm; Supplier 1: Digi-Key; Supplier Part Number 1: LT1797CS5#TRPBF-ND; Supplier 2: Newark; Supplier Part Number 2: 57M6717; Packing: Reel; RoHS: Pb-Free; Type: VFB; Vos (mV) Typical: 1; Mounting Technology: Surface Mount; Code_JEDEC: MO-193; ComponentLink1Description: Manufacturer URL; ComponentLink1URL: http://www.linear.com/; ComponentLink2Description: Datasheet; ComponentLink2URL: http://cds.linear.com/docs/en/datasheet/1797fb.pdf; ComponentLink3Description: Package Specification; ComponentLink3URL: http://cds.linear.com/docs/en/packaging/SOT_5_05-08-1635.pdf
footprint LT-S5-5-TSOT-23_N (SOT23, 5-Leads, Body 2.90x1.63mm, Pitch 0.95mm, IPC Medium Density)
footprint LT-S5-5-TSOT-23_L (SOT23, 5-Leads, Body 2.90x1.63mm, Pitch 0.95mm, IPC High Density)
footprint LT-S5-5-TSOT-23_M (SOT23, 5-Leads, Body 2.90x1.63mm, Pitch 0.95mm, IPC Low Density)
pins: 1 OUT (out) "Output.", 2 V- (power) "Negative Supply Voltage, Usually -5V.", 3 +IN (in) "Noninverting Input.", 4 -IN (in) "Inverting Input.", 5 V+ (power) "Positive Supply Voltage, Usually 5V."

## LT1797IS5
designator U?
Single Channel, Low Noise, C-load Stable Operational Amplifier, RRIO, 10 MHz Typical GBW, 2.25 V/us Typical SR, 2.1 to 12.6 V, 5-Pin SOT23 (S5-5), Industrial; Linear Technology Part Number: LT1797; Manufacturer: Linear Technology; PartNumber: LT1797IS5; Channels (#): 1; GBW (MHz) Typical: 10; Is (mA) Typical: 1.1; SR (V/us) Typical: 2.25; Vos (mV) Guaranteed: 1.5; Vs Max (V): 12.6; Vs Min (V): 2.1; DatasheetVersion: Rev. B; PackageReference: LT-S5-5-TSOT-23; PackageDescription: 5-Lead Plastic TSOT-23, Body 1.63 x 2.90 mm, Pitch 0.95 mm; Type: VFB; Vos (mV) Typical: 1; Mounting Technology: Surface Mount; Code_JEDEC: MO-193; ComponentLink1Description: Manufacturer URL; ComponentLink1URL: http://www.linear.com/; ComponentLink2Description: Datasheet; ComponentLink2URL: http://cds.linear.com/docs/en/datasheet/1797fb.pdf; ComponentLink3Description: Package Specification; ComponentLink3URL: http://cds.linear.com/docs/en/packaging/SOT_5_05-08-1635.pdf
footprint LT-S5-5-TSOT-23_N (SOT23, 5-Leads, Body 2.90x1.63mm, Pitch 0.95mm, IPC Medium Density)
footprint LT-S5-5-TSOT-23_L (SOT23, 5-Leads, Body 2.90x1.63mm, Pitch 0.95mm, IPC High Density)
footprint LT-S5-5-TSOT-23_M (SOT23, 5-Leads, Body 2.90x1.63mm, Pitch 0.95mm, IPC Low Density)
pins: 1 OUT (out) "Output.", 2 V- (power) "Negative Supply Voltage, Usually -5V.", 3 +IN (in) "Noninverting Input.", 4 -IN (in) "Inverting Input.", 5 V+ (power) "Positive Supply Voltage, Usually 5V."

## LT1797IS5#PBF
designator U?
Single Channel, Low Noise, C-load Stable Operational Amplifier, RRIO, 10 MHz Typical GBW, 2.25 V/us Typical SR, 2.1 to 12.6 V, 5-Pin SOT23 (S5-5), Industrial, Pb-Free; Linear Technology Part Number: LT1797; Manufacturer: Linear Technology; PartNumber: LT1797IS5#PBF; Channels (#): 1; GBW (MHz) Typical: 10; Is (mA) Typical: 1.1; SR (V/us) Typical: 2.25; Vos (mV) Guaranteed: 1.5; Vs Max (V): 12.6; Vs Min (V): 2.1; DatasheetVersion: Rev. B; PackageReference: LT-S5-5-TSOT-23; PackageDescription: 5-Lead Plastic TSOT-23, Body 1.63 x 2.90 mm, Pitch 0.95 mm; Supplier 1: Farnell; Supplier Part Number 1: 2294683; Supplier 2: Newark; Supplier Part Number 2: 78T3740; RoHS: Pb-Free; Type: VFB; Vos (mV) Typical: 1; Mounting Technology: Surface Mount; Code_JEDEC: MO-193; ComponentLink1Description: Manufacturer URL; ComponentLink1URL: http://www.linear.com/; ComponentLink2Description: Datasheet; ComponentLink2URL: http://cds.linear.com/docs/en/datasheet/1797fb.pdf; ComponentLink3Description: Package Specification; ComponentLink3URL: http://cds.linear.com/docs/en/packaging/SOT_5_05-08-1635.pdf
footprint LT-S5-5-TSOT-23_N (SOT23, 5-Leads, Body 2.90x1.63mm, Pitch 0.95mm, IPC Medium Density)
footprint LT-S5-5-TSOT-23_L (SOT23, 5-Leads, Body 2.90x1.63mm, Pitch 0.95mm, IPC High Density)
footprint LT-S5-5-TSOT-23_M (SOT23, 5-Leads, Body 2.90x1.63mm, Pitch 0.95mm, IPC Low Density)
pins: 1 OUT (out) "Output.", 2 V- (power) "Negative Supply Voltage, Usually -5V.", 3 +IN (in) "Noninverting Input.", 4 -IN (in) "Inverting Input.", 5 V+ (power) "Positive Supply Voltage, Usually 5V."

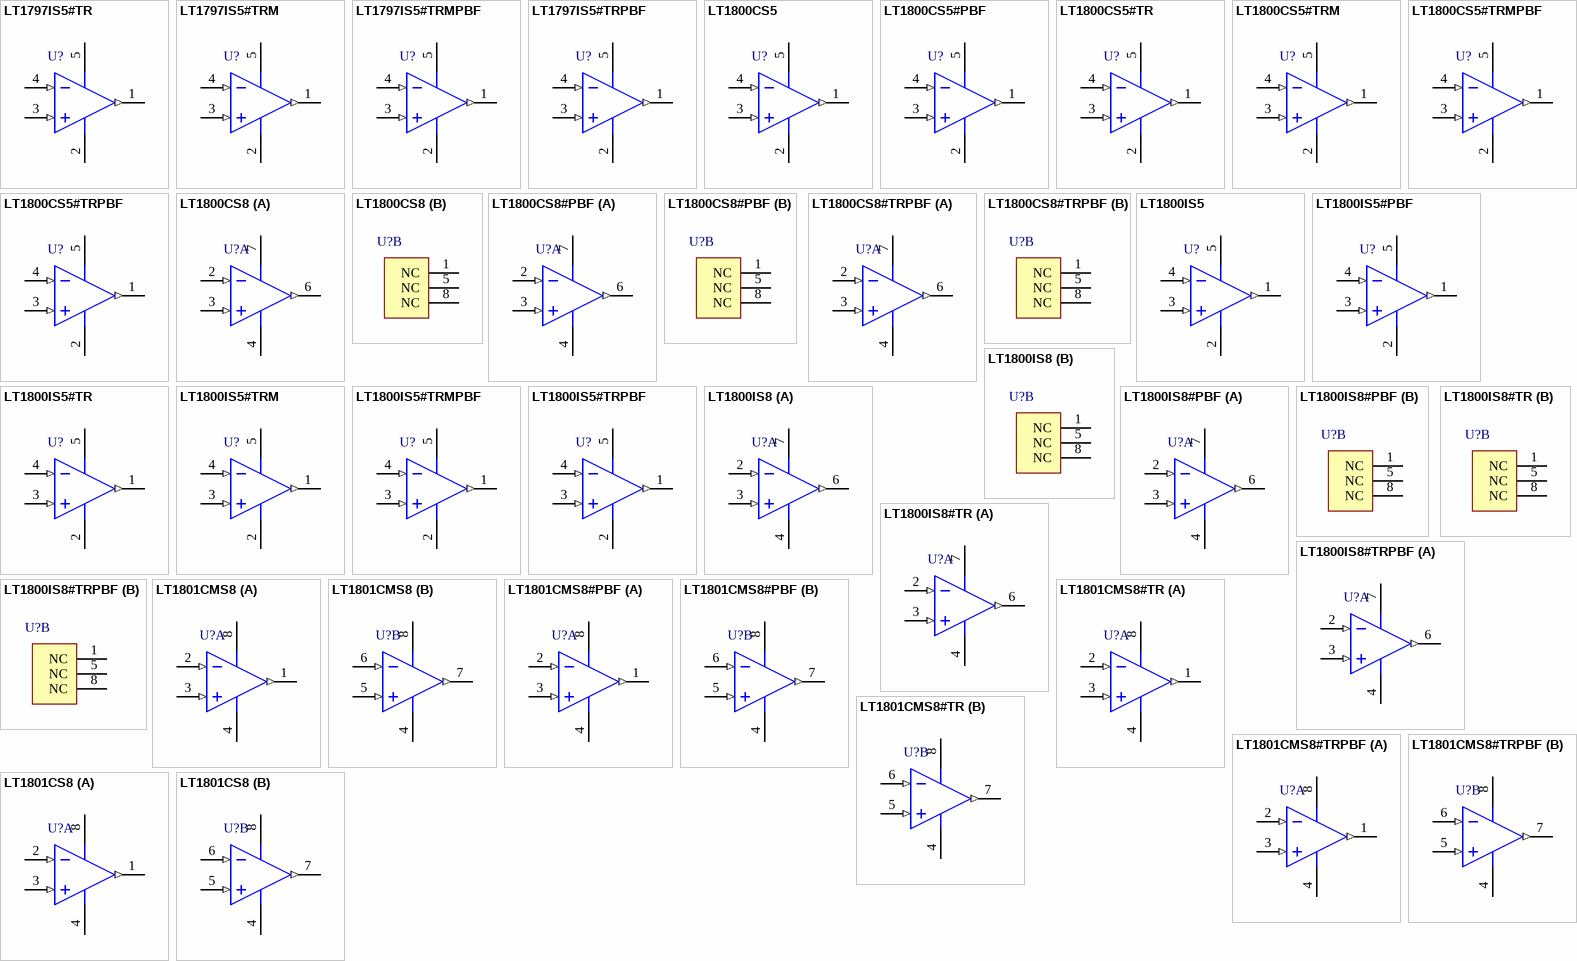
[diagram p75: symbols LT1797IS5#TR to LT1801CS8]

## LT1797IS5#TR
designator U?
Single Channel, Low Noise, C-load Stable Operational Amplifier, RRIO, 10 MHz Typical GBW, 2.25 V/us Typical SR, 2.1 to 12.6 V, 5-Pin SOT23 (S5-5), Industrial, Reel; Linear Technology Part Number: LT1797; Manufacturer: Linear Technology; PartNumber: LT1797IS5#TR; Channels (#): 1; GBW (MHz) Typical: 10; Is (mA) Typical: 1.1; SR (V/us) Typical: 2.25; Vos (mV) Guaranteed: 1.5; Vs Max (V): 12.6; Vs Min (V): 2.1; DatasheetVersion: Rev. B; PackageReference: LT-S5-5-TSOT-23; PackageDescription: 5-Lead Plastic TSOT-23, Body 1.63 x 2.90 mm, Pitch 0.95 mm; Supplier 1: Digi-Key; Supplier Part Number 1: LT1797IS5#TR-ND; Packing: Reel; Type: VFB; Vos (mV) Typical: 1; Mounting Technology: Surface Mount; Code_JEDEC: MO-193; ComponentLink1Description: Manufacturer URL; ComponentLink1URL: http://www.linear.com/; ComponentLink2Description: Datasheet; ComponentLink2URL: http://cds.linear.com/docs/en/datasheet/1797fb.pdf; ComponentLink3Description: Package Specification; ComponentLink3URL: http://cds.linear.com/docs/en/packaging/SOT_5_05-08-1635.pdf
footprint LT-S5-5-TSOT-23_N (SOT23, 5-Leads, Body 2.90x1.63mm, Pitch 0.95mm, IPC Medium Density)
footprint LT-S5-5-TSOT-23_L (SOT23, 5-Leads, Body 2.90x1.63mm, Pitch 0.95mm, IPC High Density)
footprint LT-S5-5-TSOT-23_M (SOT23, 5-Leads, Body 2.90x1.63mm, Pitch 0.95mm, IPC Low Density)
pins: 1 OUT (out) "Output.", 2 V- (power) "Negative Supply Voltage, Usually -5V.", 3 +IN (in) "Noninverting Input.", 4 -IN (in) "Inverting Input.", 5 V+ (power) "Positive Supply Voltage, Usually 5V."

## LT1797IS5#TRM
designator U?
Single Channel, Low Noise, C-load Stable Operational Amplifier, RRIO, 10 MHz Typical GBW, 2.25 V/us Typical SR, 2.1 to 12.6 V, 5-Pin SOT23 (S5-5), Industrial, Mini Reel; Linear Technology Part Number: LT1797; Manufacturer: Linear Technology; PartNumber: LT1797IS5#TRM; Channels (#): 1; GBW (MHz) Typical: 10; Is (mA) Typical: 1.1; SR (V/us) Typical: 2.25; Vos (mV) Guaranteed: 1.5; Vs Max (V): 12.6; Vs Min (V): 2.1; DatasheetVersion: Rev. B; PackageReference: LT-S5-5-TSOT-23; PackageDescription: 5-Lead Plastic TSOT-23, Body 1.63 x 2.90 mm, Pitch 0.95 mm; Supplier 1: Digi-Key; Supplier Part Number 1: LT1797IS5#TRM-ND; Packing: Mini Reel; Type: VFB; Vos (mV) Typical: 1; Mounting Technology: Surface Mount; Code_JEDEC: MO-193; ComponentLink1Description: Manufacturer URL; ComponentLink1URL: http://www.linear.com/; ComponentLink2Description: Datasheet; ComponentLink2URL: http://cds.linear.com/docs/en/datasheet/1797fb.pdf; ComponentLink3Description: Package Specification; ComponentLink3URL: http://cds.linear.com/docs/en/packaging/SOT_5_05-08-1635.pdf
footprint LT-S5-5-TSOT-23_N (SOT23, 5-Leads, Body 2.90x1.63mm, Pitch 0.95mm, IPC Medium Density)
footprint LT-S5-5-TSOT-23_L (SOT23, 5-Leads, Body 2.90x1.63mm, Pitch 0.95mm, IPC High Density)
footprint LT-S5-5-TSOT-23_M (SOT23, 5-Leads, Body 2.90x1.63mm, Pitch 0.95mm, IPC Low Density)
pins: 1 OUT (out) "Output.", 2 V- (power) "Negative Supply Voltage, Usually -5V.", 3 +IN (in) "Noninverting Input.", 4 -IN (in) "Inverting Input.", 5 V+ (power) "Positive Supply Voltage, Usually 5V."

## LT1797IS5#TRMPBF
designator U?
Single Channel, Low Noise, C-load Stable Operational Amplifier, RRIO, 10 MHz Typical GBW, 2.25 V/us Typical SR, 2.1 to 12.6 V, 5-Pin SOT23 (S5-5), Industrial, Pb-Free, Mini Reel; Linear Technology Part Number: LT1797; Manufacturer: Linear Technology; PartNumber: LT1797IS5#TRMPBF; Channels (#): 1; GBW (MHz) Typical: 10; Is (mA) Typical: 1.1; SR (V/us) Typical: 2.25; Vos (mV) Guaranteed: 1.5; Vs Max (V): 12.6; Vs Min (V): 2.1; DatasheetVersion: Rev. B; PackageReference: LT-S5-5-TSOT-23; PackageDescription: 5-Lead Plastic TSOT-23, Body 1.63 x 2.90 mm, Pitch 0.95 mm; Supplier 1: Digi-Key; Supplier Part Number 1: LT1797IS5#TRMPBF-ND; Supplier 2: Newark; Supplier Part Number 2: 57M6720; Packing: Mini Reel; RoHS: Pb-Free; Type: VFB; Vos (mV) Typical: 1; Mounting Technology: Surface Mount; Code_JEDEC: MO-193; ComponentLink1Description: Manufacturer URL; ComponentLink1URL: http://www.linear.com/; ComponentLink2Description: Datasheet; ComponentLink2URL: http://cds.linear.com/docs/en/datasheet/1797fb.pdf; ComponentLink3Description: Package Specification; ComponentLink3URL: http://cds.linear.com/docs/en/packaging/SOT_5_05-08-1635.pdf
footprint LT-S5-5-TSOT-23_N (SOT23, 5-Leads, Body 2.90x1.63mm, Pitch 0.95mm, IPC Medium Density)
footprint LT-S5-5-TSOT-23_L (SOT23, 5-Leads, Body 2.90x1.63mm, Pitch 0.95mm, IPC High Density)
footprint LT-S5-5-TSOT-23_M (SOT23, 5-Leads, Body 2.90x1.63mm, Pitch 0.95mm, IPC Low Density)
pins: 1 OUT (out) "Output.", 2 V- (power) "Negative Supply Voltage, Usually -5V.", 3 +IN (in) "Noninverting Input.", 4 -IN (in) "Inverting Input.", 5 V+ (power) "Positive Supply Voltage, Usually 5V."

## LT1797IS5#TRPBF
designator U?
Single Channel, Low Noise, C-load Stable Operational Amplifier, RRIO, 10 MHz Typical GBW, 2.25 V/us Typical SR, 2.1 to 12.6 V, 5-Pin SOT23 (S5-5), Industrial, Pb-Free, Reel; Linear Technology Part Number: LT1797; Manufacturer: Linear Technology; PartNumber: LT1797IS5#TRPBF; Channels (#): 1; GBW (MHz) Typical: 10; Is (mA) Typical: 1.1; SR (V/us) Typical: 2.25; Vos (mV) Guaranteed: 1.5; Vs Max (V): 12.6; Vs Min (V): 2.1; DatasheetVersion: Rev. B; PackageReference: LT-S5-5-TSOT-23; PackageDescription: 5-Lead Plastic TSOT-23, Body 1.63 x 2.90 mm, Pitch 0.95 mm; Supplier 1: Digi-Key; Supplier Part Number 1: LT1797IS5#TRPBF-ND; Supplier 2: Newark; Supplier Part Number 2: 57M6721; Packing: Reel; RoHS: Pb-Free; Type: VFB; Vos (mV) Typical: 1; Mounting Technology: Surface Mount; Code_JEDEC: MO-193; ComponentLink1Description: Manufacturer URL; ComponentLink1URL: http://www.linear.com/; ComponentLink2Description: Datasheet; ComponentLink2URL: http://cds.linear.com/docs/en/datasheet/1797fb.pdf; ComponentLink3Description: Package Specification; ComponentLink3URL: http://cds.linear.com/docs/en/packaging/SOT_5_05-08-1635.pdf
footprint LT-S5-5-TSOT-23_N (SOT23, 5-Leads, Body 2.90x1.63mm, Pitch 0.95mm, IPC Medium Density)
footprint LT-S5-5-TSOT-23_L (SOT23, 5-Leads, Body 2.90x1.63mm, Pitch 0.95mm, IPC High Density)
footprint LT-S5-5-TSOT-23_M (SOT23, 5-Leads, Body 2.90x1.63mm, Pitch 0.95mm, IPC Low Density)
pins: 1 OUT (out) "Output.", 2 V- (power) "Negative Supply Voltage, Usually -5V.", 3 +IN (in) "Noninverting Input.", 4 -IN (in) "Inverting Input.", 5 V+ (power) "Positive Supply Voltage, Usually 5V."

## LT1800CS5
designator U?
Single Channel, High Speed / Power, Precision Operational Amplifier, RRIO, 80 MHz Typical GBW, 25 V/us Typical SR, 2.3 to 12.6 V, 5-Pin SOT23 (S5-5), Commercial; Linear Technology Part Number: LT1800; Manufacturer: Linear Technology; PartNumber: LT1800CS5; Channels (#): 1; GBW (MHz) Typical: 80; Is (mA) Typical: 1.6; SR (V/us) Typical: 25; Vos (mV) Guaranteed: 0.35; Vos (mV) Typical: 0.075; Vs Max (V): 12.6; Vs Min (V): 2.3; DatasheetVersion: Rev. A; PackageReference: LT-S5-5-TSOT-23; PackageDescription: 5-Lead Plastic TSOT-23, Body 1.63 x 2.90 mm, Pitch 0.95 mm; Type: VFB; Mounting Technology: Surface Mount; Code_JEDEC: MO-193; ComponentLink1Description: Manufacturer URL; ComponentLink1URL: http://www.linear.com/; ComponentLink2Description: Datasheet; ComponentLink2URL: http://cds.linear.com/docs/en/datasheet/1800fa.pdf; ComponentLink3Description: Package Specification; ComponentLink3URL: http://cds.linear.com/docs/en/packaging/SOT_5_05-08-1635.pdf
footprint LT-S5-5-TSOT-23_N (SOT23, 5-Leads, Body 2.90x1.63mm, Pitch 0.95mm, IPC Medium Density)
footprint LT-S5-5-TSOT-23_L (SOT23, 5-Leads, Body 2.90x1.63mm, Pitch 0.95mm, IPC High Density)
footprint LT-S5-5-TSOT-23_M (SOT23, 5-Leads, Body 2.90x1.63mm, Pitch 0.95mm, IPC Low Density)
pins: 1 VOUT (out), 2 VS- (power), 3 +IN (in), 4 -IN (in), 5 VS+ (power)

## LT1800CS5#PBF
designator U?
Single Channel, High Speed / Power, Precision Operational Amplifier, RRIO, 80 MHz Typical GBW, 25 V/us Typical SR, 2.3 to 12.6 V, 5-Pin SOT23 (S5-5), Commercial, Pb-Free; Linear Technology Part Number: LT1800; Manufacturer: Linear Technology; PartNumber: LT1800CS5#PBF; Channels (#): 1; GBW (MHz) Typical: 80; Is (mA) Typical: 1.6; SR (V/us) Typical: 25; Vos (mV) Guaranteed: 0.35; Vos (mV) Typical: 0.075; Vs Max (V): 12.6; Vs Min (V): 2.3; DatasheetVersion: Rev. A; PackageReference: LT-S5-5-TSOT-23; PackageDescription: 5-Lead Plastic TSOT-23, Body 1.63 x 2.90 mm, Pitch 0.95 mm; Supplier 1: Farnell; Supplier Part Number 1: 2308187; Supplier 2: Newark; Supplier Part Number 2: 78T3741; RoHS: Pb-Free; Type: VFB; Mounting Technology: Surface Mount; Code_JEDEC: MO-193; ComponentLink1Description: Manufacturer URL; ComponentLink1URL: http://www.linear.com/; ComponentLink2Description: Datasheet; ComponentLink2URL: http://cds.linear.com/docs/en/datasheet/1800fa.pdf; ComponentLink3Description: Package Specification; ComponentLink3URL: http://cds.linear.com/docs/en/packaging/SOT_5_05-08-1635.pdf
footprint LT-S5-5-TSOT-23_N (SOT23, 5-Leads, Body 2.90x1.63mm, Pitch 0.95mm, IPC Medium Density)
footprint LT-S5-5-TSOT-23_L (SOT23, 5-Leads, Body 2.90x1.63mm, Pitch 0.95mm, IPC High Density)
footprint LT-S5-5-TSOT-23_M (SOT23, 5-Leads, Body 2.90x1.63mm, Pitch 0.95mm, IPC Low Density)
pins: 1 VOUT (out), 2 VS- (power), 3 +IN (in), 4 -IN (in), 5 VS+ (power)